# EAGLE library part JUMPER7M (library !stavebnice03)
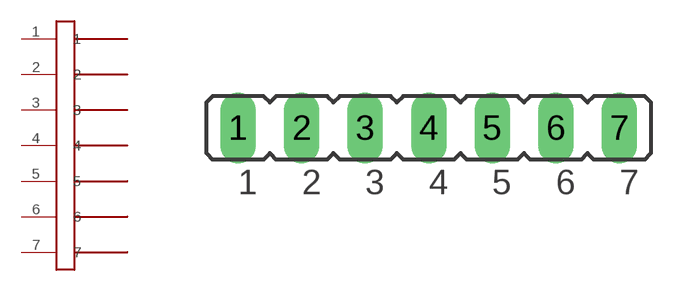
[diagram p5: symbol with the pads of JUMPER7M; footprint JUMPER7M]

Designator prefix -

## JUMPER7M  [JUMPER7M]
1  1
2  2
3  3
4  4
5  5
6  6
7  7

## Footprint JUMPER7M (pad centres in mm)
drill 0.914 long: 1 -7.62,0; 2 -5.08,0; 3 -2.54,0; 4 0,0; 5 2.54,0; 6 5.08,0; 7 7.62,0